# EAGLE library part DRV8833CPWPR (library ZippyComponentLibrary)
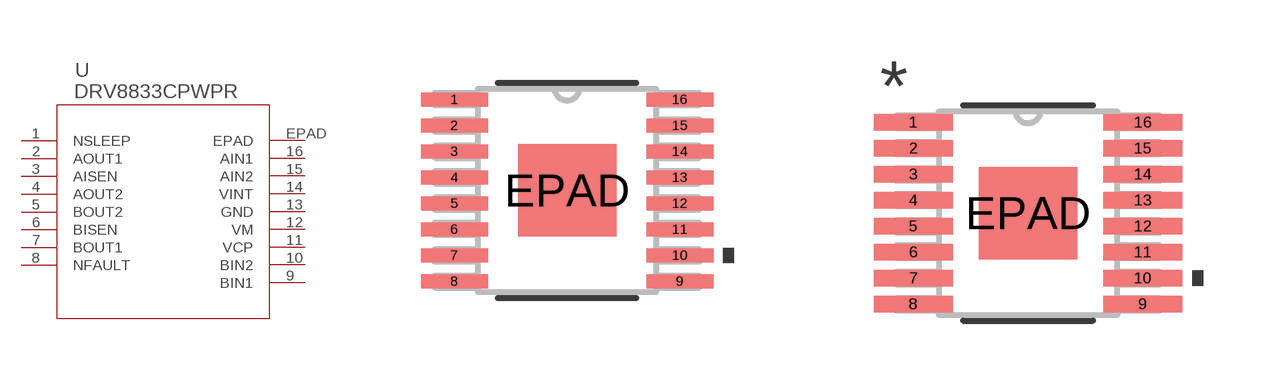
[diagram p1: symbol with the pads of PWP16_2P31X2P46; footprints PWP16_2P31X2P46, PWP16_2P31X2P46-M]

Designator prefix U

## DRV8833CPWPR (MANUFACTURER_PART_NUMBER: DRV8833CPWPR; VENDOR: Texas Instruments)  [PWP16_2P31X2P46]
1  NSLEEP  in
2  AOUT1  out
3  AISEN
4  AOUT2  out
5  BOUT2  out
6  BISEN
7  BOUT1  out
8  NFAULT  out
9  BIN1  in
10  BIN2  in
11  VCP
12  VM  pwr
13  GND  pwr
14  VINT  pwr
15  AIN2  in
16  AIN1  in
EPAD  EPAD  pas

## DRV8833CPWPRPWP16_2P31X2P46-M (MANUFACTURER_PART_NUMBER: DRV8833CPWPR; VENDOR: Texas Instruments)  [PWP16_2P31X2P46-M]
Pads as for PWP16_2P31X2P46

## DRV8833CPWPRPWP16_2P31X2P46-L (MANUFACTURER_PART_NUMBER: DRV8833CPWPR; VENDOR: Texas Instruments)  [PWP16_2P31X2P46-L]
Pads as for PWP16_2P31X2P46

## Footprint PWP16_2P31X2P46 (pad centres in mm)
smd 1.676 x 0.356: 1 -2.819,2.275; 2 -2.819,1.625; 3 -2.819,0.975; 4 -2.819,0.325; 5 -2.819,-0.325; 6 -2.819,-0.975; 7 -2.819,-1.625; 8 -2.819,-2.275; 9 2.819,-2.275; 10 2.819,-1.625; 11 2.819,-0.975; 12 2.819,-0.325; 13 2.819,0.325; 14 2.819,0.975; 15 2.819,1.625; 16 2.819,2.275
smd 2.46 x 2.31: EPAD 0,0

## Footprint PWP16_2P31X2P46-M (pad centres in mm)
smd 1.981 x 0.406: 1 -2.87,2.275; 2 -2.87,1.625; 3 -2.87,0.975; 4 -2.87,0.325; 5 -2.87,-0.325; 6 -2.87,-0.975; 7 -2.87,-1.625; 8 -2.87,-2.275; 9 2.87,-2.275; 10 2.87,-1.625; 11 2.87,-0.975; 12 2.87,-0.325; 13 2.87,0.325; 14 2.87,0.975; 15 2.87,1.625; 16 2.87,2.275
smd 2.46 x 2.31: EPAD 0,0

## Footprint PWP16_2P31X2P46-L (pad centres in mm)
smd 1.372 x 0.305: 1 -2.769,2.275; 2 -2.769,1.625; 3 -2.769,0.975; 4 -2.769,0.325; 5 -2.769,-0.325; 6 -2.769,-0.975; 7 -2.769,-1.625; 8 -2.769,-2.275; 9 2.769,-2.275; 10 2.769,-1.625; 11 2.769,-0.975; 12 2.769,-0.325; 13 2.769,0.325; 14 2.769,0.975; 15 2.769,1.625; 16 2.769,2.275
smd 2.46 x 2.31: EPAD 0,0